# Altium schematic symbol library kmilo17pet-TI_MSP430.SchLib: 1463 symbols (part 15 of 130)
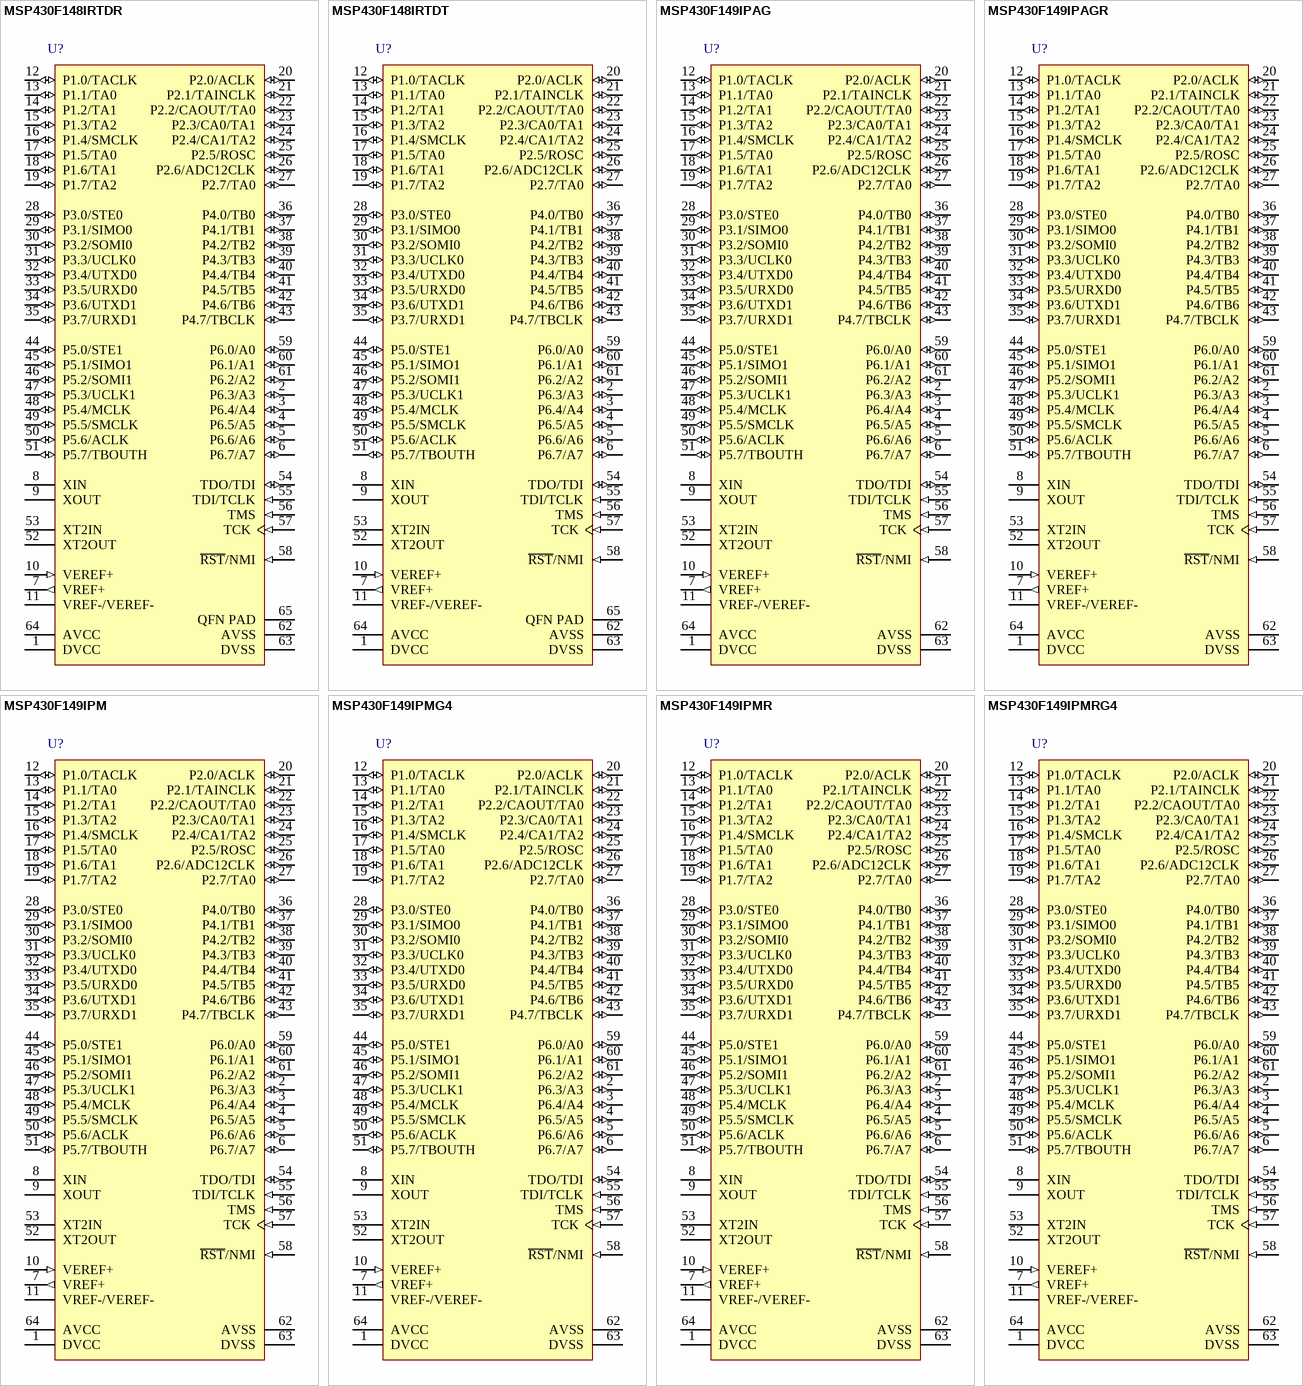
[diagram p244: symbols MSP430F148IRTDR to MSP430F149IPMRG4]

## MSP430F149IPM
designator U?
8 MHz Mixed Signal Microcontroller with 60 KB Flash, 2048 B SRAM and 48 GPIOs, -40 to 85 degC, 64-pin QFP (PM), Green (RoHS & no Sb/Br); Manufacturer: Texas Instruments; PartNumber: MSP430F149IPM; ADC: 12-bit SAR; ADC Channels: 8; Comparators: Yes; Flash(KB): 60; GPIO: 48; Multiplier: 16x16; SRAM(B): 2048; SubFamily: 1 Series; Timers - 16-bit: 2; DatasheetVersion: SLAS272F; PackageVersion: 4040152/C; PackageReference: PM64; PackageDescription: 64-Pin Plastic Quad Flat Pack, Body 10 x 10 mm, Pitch 0.5 mm; Supplier 1: Digi-Key; Supplier Part Number 1: MSP430F149IPAGR-ND; Supplier 2: Newark; Supplier Part Number 2: 65M1693; Supplier 3: Mouser; Supplier Part Number 3: 595-MSP430F149IPAGR; Eco-Plan: Green (RoHS & no Sb/Br); Frequency(MHz): 8; Temp Sensor: Yes; USART: 2; Watchdog: Yes; Mounting Technology: Surface Mount; Code_JEDEC: MS-026; ComponentLink1Description: Manufacturer URL; ComponentLink1URL: http://www.ti.com/; ComponentLink2Description: Datasheet; ComponentLink2URL: http://www.ti.com/general/docs/lit/getliterature.tsp?genericPartNumber=MSP430F149&fileType=pdf; ComponentLink3Description: Package Specification; ComponentLink3URL: http://www.ti.com/lit/ml/mtqf008a/mtqf008a.pdf
footprint TI-PM64_N (QFP, 64-Leads, Body 10x10mm, Pitch 0.5mm, IPC Medium Density)
pins: 1 DVCC (power) "Digital supply voltage, positive terminal. Supplies all digital parts.", 2 P6.3/A3 (io), 3 P6.4/A4 (io), 4 P6.5/A5 (io), 5 P6.6/A6 (io), 6 P6.7/A7 (io), 7 VREF+ (out) "Output of positive terminal of the reference voltage in the ADC", 8 XIN "Input port for crystal oscillator XT1. Standard or watch crystals can be connected.", 9 XOUT "Output terminal of crystal oscillator XT1", 10 VEREF+ (in) "Input for an external reference voltage to the ADC", 11 VREF-/VEREF-, 12 P1.0/TACLK (io), 13 P1.1/TA0 (io), 14 P1.2/TA1 (io), 15 P1.3/TA2 (io), 16 P1.4/SMCLK (io), 17 P1.5/TA0 (io), 18 P1.6/TA1 (io), 19 P1.7/TA2 (io), 20 P2.0/ACLK (io), 21 P2.1/TAINCLK (io), 22 P2.2/CAOUT/TA0 (io), 23 P2.3/CA0/TA1 (io), 24 P2.4/CA1/TA2 (io), 25 P2.5/ROSC (io), 26 P2.6/ADC12CLK (io), 27 P2.7/TA0 (io), 28 P3.0/STE0 (io), 29 P3.1/SIMO0 (io), 30 P3.2/SOMI0 (io), 31 P3.3/UCLK0 (io), 32 P3.4/UTXD0 (io), 33 P3.5/URXD0 (io), 34 P3.6/UTXD1 (io), 35 P3.7/URXD1 (io), 36 P4.0/TB0 (io), 37 P4.1/TB1 (io), 38 P4.2/TB2 (io), 39 P4.3/TB3 (io), 40 P4.4/TB4 (io), 41 P4.5/TB5 (io), 42 P4.6/TB6 (io), 43 P4.7/TBCLK (io), 44 P5.0/STE1 (io), 45 P5.1/SIMO1 (io), 46 P5.2/SOMI1 (io), 47 P5.3/UCLK1 (io), 48 P5.4/MCLK (io), 49 P5.5/SMCLK (io), 50 P5.6/ACLK (io), 51 P5.7/TBOUTH (io), 52 XT2OUT "Output terminal of crystal oscillator XT2", 53 XT2IN "Input port for crystal oscillator XT2. Only standard crystals can be connected.", 54 TDO/TDI (io), 55 TDI/TCLK (in), 56 TMS (in) "Test mode select. TMS is used as an input port for device programming and test.", 57 TCK (in) "Test clock. TCK is the clock input port for device programming test and bootstrap loader start (in Flash devices).", 58 ~{RST}/NMI (in), 59 P6.0/A0 (io), 60 P6.1/A1 (io), 61 P6.2/A2 (io), 62 AVSS (power) "Analog supply voltage, negative terminal. Supplies the analog portion of the analog-to-digital converter.", 63 DVSS (power) "Digital supply voltage, negative terminal. Supplies all digital parts.", 64 AVCC (power) "Analog supply voltage, positive terminal. Supplies the analog portion of the analog-to-digital converter."

## MSP430F149IPMG4
designator U?
8 MHz Mixed Signal Microcontroller with 60 KB Flash, 2048 B SRAM and 48 GPIOs, -40 to 85 degC, 64-pin QFP (PM), Green (RoHS & no Sb/Br); Manufacturer: Texas Instruments; PartNumber: MSP430F149IPMG4; ADC: 12-bit SAR; ADC Channels: 8; Comparators: Yes; Flash(KB): 60; GPIO: 48; Multiplier: 16x16; SRAM(B): 2048; SubFamily: 1 Series; Timers - 16-bit: 2; DatasheetVersion: SLAS272F; PackageVersion: 4040152/C; PackageReference: PM64; PackageDescription: 64-Pin Plastic Quad Flat Pack, Body 10 x 10 mm, Pitch 0.5 mm; Supplier 1: Digi-Key; Supplier Part Number 1: 296-9615-ND; Supplier 2: Farnell; Supplier Part Number 2: 1103048; Supplier 3: Newark; Supplier Part Number 3: 27C4967; Supplier 4: Mouser; Supplier Part Number 4: 595-430F149IPM; Eco-Plan: Green (RoHS & no Sb/Br); Frequency(MHz): 8; Temp Sensor: Yes; USART: 2; Watchdog: Yes; Mounting Technology: Surface Mount; Code_JEDEC: MS-026; ComponentLink1Description: Manufacturer URL; ComponentLink1URL: http://www.ti.com/; ComponentLink2Description: Datasheet; ComponentLink2URL: http://www.ti.com/general/docs/lit/getliterature.tsp?genericPartNumber=MSP430F149&fileType=pdf; ComponentLink3Description: Package Specification; ComponentLink3URL: http://www.ti.com/lit/ml/mtqf008a/mtqf008a.pdf
footprint TI-PM64_N (QFP, 64-Leads, Body 10x10mm, Pitch 0.5mm, IPC Medium Density)
pins: 1 DVCC (power) "Digital supply voltage, positive terminal. Supplies all digital parts.", 2 P6.3/A3 (io), 3 P6.4/A4 (io), 4 P6.5/A5 (io), 5 P6.6/A6 (io), 6 P6.7/A7 (io), 7 VREF+ (out) "Output of positive terminal of the reference voltage in the ADC", 8 XIN "Input port for crystal oscillator XT1. Standard or watch crystals can be connected.", 9 XOUT "Output terminal of crystal oscillator XT1", 10 VEREF+ (in) "Input for an external reference voltage to the ADC", 11 VREF-/VEREF-, 12 P1.0/TACLK (io), 13 P1.1/TA0 (io), 14 P1.2/TA1 (io), 15 P1.3/TA2 (io), 16 P1.4/SMCLK (io), 17 P1.5/TA0 (io), 18 P1.6/TA1 (io), 19 P1.7/TA2 (io), 20 P2.0/ACLK (io), 21 P2.1/TAINCLK (io), 22 P2.2/CAOUT/TA0 (io), 23 P2.3/CA0/TA1 (io), 24 P2.4/CA1/TA2 (io), 25 P2.5/ROSC (io), 26 P2.6/ADC12CLK (io), 27 P2.7/TA0 (io), 28 P3.0/STE0 (io), 29 P3.1/SIMO0 (io), 30 P3.2/SOMI0 (io), 31 P3.3/UCLK0 (io), 32 P3.4/UTXD0 (io), 33 P3.5/URXD0 (io), 34 P3.6/UTXD1 (io), 35 P3.7/URXD1 (io), 36 P4.0/TB0 (io), 37 P4.1/TB1 (io), 38 P4.2/TB2 (io), 39 P4.3/TB3 (io), 40 P4.4/TB4 (io), 41 P4.5/TB5 (io), 42 P4.6/TB6 (io), 43 P4.7/TBCLK (io), 44 P5.0/STE1 (io), 45 P5.1/SIMO1 (io), 46 P5.2/SOMI1 (io), 47 P5.3/UCLK1 (io), 48 P5.4/MCLK (io), 49 P5.5/SMCLK (io), 50 P5.6/ACLK (io), 51 P5.7/TBOUTH (io), 52 XT2OUT "Output terminal of crystal oscillator XT2", 53 XT2IN "Input port for crystal oscillator XT2. Only standard crystals can be connected.", 54 TDO/TDI (io), 55 TDI/TCLK (in), 56 TMS (in) "Test mode select. TMS is used as an input port for device programming and test.", 57 TCK (in) "Test clock. TCK is the clock input port for device programming test and bootstrap loader start (in Flash devices).", 58 ~{RST}/NMI (in), 59 P6.0/A0 (io), 60 P6.1/A1 (io), 61 P6.2/A2 (io), 62 AVSS (power) "Analog supply voltage, negative terminal. Supplies the analog portion of the analog-to-digital converter.", 63 DVSS (power) "Digital supply voltage, negative terminal. Supplies all digital parts.", 64 AVCC (power) "Analog supply voltage, positive terminal. Supplies the analog portion of the analog-to-digital converter."

## MSP430F149IPMR
designator U?
8 MHz Mixed Signal Microcontroller with 60 KB Flash, 2048 B SRAM and 48 GPIOs, -40 to 85 degC, 64-pin QFP (PM), Green (RoHS & no Sb/Br); Manufacturer: Texas Instruments; PartNumber: MSP430F149IPMR; ADC: 12-bit SAR; ADC Channels: 8; Comparators: Yes; Flash(KB): 60; GPIO: 48; Multiplier: 16x16; SRAM(B): 2048; SubFamily: 1 Series; Timers - 16-bit: 2; DatasheetVersion: SLAS272F; PackageVersion: 4040152/C; PackageReference: PM64; PackageDescription: 64-Pin Plastic Quad Flat Pack, Body 10 x 10 mm, Pitch 0.5 mm; Supplier 1: Digi-Key; Supplier Part Number 1: MSP430F149IPMG4-ND; Supplier 2: Newark; Supplier Part Number 2: 04K3544; Supplier 3: Mouser; Supplier Part Number 3: 595-MSP430F149IPMG4; Eco-Plan: Green (RoHS & no Sb/Br); Frequency(MHz): 8; Temp Sensor: Yes; USART: 2; Watchdog: Yes; Mounting Technology: Surface Mount; Code_JEDEC: MS-026; ComponentLink1Description: Manufacturer URL; ComponentLink1URL: http://www.ti.com/; ComponentLink2Description: Datasheet; ComponentLink2URL: http://www.ti.com/general/docs/lit/getliterature.tsp?genericPartNumber=MSP430F149&fileType=pdf; ComponentLink3Description: Package Specification; ComponentLink3URL: http://www.ti.com/lit/ml/mtqf008a/mtqf008a.pdf
footprint TI-PM64_N (QFP, 64-Leads, Body 10x10mm, Pitch 0.5mm, IPC Medium Density)
pins: 1 DVCC (power) "Digital supply voltage, positive terminal. Supplies all digital parts.", 2 P6.3/A3 (io), 3 P6.4/A4 (io), 4 P6.5/A5 (io), 5 P6.6/A6 (io), 6 P6.7/A7 (io), 7 VREF+ (out) "Output of positive terminal of the reference voltage in the ADC", 8 XIN "Input port for crystal oscillator XT1. Standard or watch crystals can be connected.", 9 XOUT "Output terminal of crystal oscillator XT1", 10 VEREF+ (in) "Input for an external reference voltage to the ADC", 11 VREF-/VEREF-, 12 P1.0/TACLK (io), 13 P1.1/TA0 (io), 14 P1.2/TA1 (io), 15 P1.3/TA2 (io), 16 P1.4/SMCLK (io), 17 P1.5/TA0 (io), 18 P1.6/TA1 (io), 19 P1.7/TA2 (io), 20 P2.0/ACLK (io), 21 P2.1/TAINCLK (io), 22 P2.2/CAOUT/TA0 (io), 23 P2.3/CA0/TA1 (io), 24 P2.4/CA1/TA2 (io), 25 P2.5/ROSC (io), 26 P2.6/ADC12CLK (io), 27 P2.7/TA0 (io), 28 P3.0/STE0 (io), 29 P3.1/SIMO0 (io), 30 P3.2/SOMI0 (io), 31 P3.3/UCLK0 (io), 32 P3.4/UTXD0 (io), 33 P3.5/URXD0 (io), 34 P3.6/UTXD1 (io), 35 P3.7/URXD1 (io), 36 P4.0/TB0 (io), 37 P4.1/TB1 (io), 38 P4.2/TB2 (io), 39 P4.3/TB3 (io), 40 P4.4/TB4 (io), 41 P4.5/TB5 (io), 42 P4.6/TB6 (io), 43 P4.7/TBCLK (io), 44 P5.0/STE1 (io), 45 P5.1/SIMO1 (io), 46 P5.2/SOMI1 (io), 47 P5.3/UCLK1 (io), 48 P5.4/MCLK (io), 49 P5.5/SMCLK (io), 50 P5.6/ACLK (io), 51 P5.7/TBOUTH (io), 52 XT2OUT "Output terminal of crystal oscillator XT2", 53 XT2IN "Input port for crystal oscillator XT2. Only standard crystals can be connected.", 54 TDO/TDI (io), 55 TDI/TCLK (in), 56 TMS (in) "Test mode select. TMS is used as an input port for device programming and test.", 57 TCK (in) "Test clock. TCK is the clock input port for device programming test and bootstrap loader start (in Flash devices).", 58 ~{RST}/NMI (in), 59 P6.0/A0 (io), 60 P6.1/A1 (io), 61 P6.2/A2 (io), 62 AVSS (power) "Analog supply voltage, negative terminal. Supplies the analog portion of the analog-to-digital converter.", 63 DVSS (power) "Digital supply voltage, negative terminal. Supplies all digital parts.", 64 AVCC (power) "Analog supply voltage, positive terminal. Supplies the analog portion of the analog-to-digital converter."

## MSP430F149IPMRG4
designator U?
8 MHz Mixed Signal Microcontroller with 60 KB Flash, 2048 B SRAM and 48 GPIOs, -40 to 85 degC, 64-pin QFP (PM), Green (RoHS & no Sb/Br); Manufacturer: Texas Instruments; PartNumber: MSP430F149IPMRG4; ADC: 12-bit SAR; ADC Channels: 8; Comparators: Yes; Flash(KB): 60; GPIO: 48; Multiplier: 16x16; SRAM(B): 2048; SubFamily: 1 Series; Timers - 16-bit: 2; DatasheetVersion: SLAS272F; PackageVersion: 4040152/C; PackageReference: PM64; PackageDescription: 64-Pin Plastic Quad Flat Pack, Body 10 x 10 mm, Pitch 0.5 mm; Supplier 1: Digi-Key; Supplier Part Number 1: 296-26186-2-ND; Supplier 2: Digi-Key; Supplier Part Number 2: 296-26186-1-ND; Supplier 3: Digi-Key; Supplier Part Number 3: 296-26186-6-ND; Supplier 4: Newark; Supplier Part Number 4: 75C4042; Supplier 5: Mouser; Supplier Part Number 5: 595-430F149IPMR; Eco-Plan: Green (RoHS & no Sb/Br); Frequency(MHz): 8; Temp Sensor: Yes; USART: 2; Watchdog: Yes; Mounting Technology: Surface Mount; Code_JEDEC: MS-026; ComponentLink1Description: Manufacturer URL; ComponentLink1URL: http://www.ti.com/; ComponentLink2Description: Datasheet; ComponentLink2URL: http://www.ti.com/general/docs/lit/getliterature.tsp?genericPartNumber=MSP430F149&fileType=pdf; ComponentLink3Description: Package Specification; ComponentLink3URL: http://www.ti.com/lit/ml/mtqf008a/mtqf008a.pdf
footprint TI-PM64_N (QFP, 64-Leads, Body 10x10mm, Pitch 0.5mm, IPC Medium Density)
pins: 1 DVCC (power) "Digital supply voltage, positive terminal. Supplies all digital parts.", 2 P6.3/A3 (io), 3 P6.4/A4 (io), 4 P6.5/A5 (io), 5 P6.6/A6 (io), 6 P6.7/A7 (io), 7 VREF+ (out) "Output of positive terminal of the reference voltage in the ADC", 8 XIN "Input port for crystal oscillator XT1. Standard or watch crystals can be connected.", 9 XOUT "Output terminal of crystal oscillator XT1", 10 VEREF+ (in) "Input for an external reference voltage to the ADC", 11 VREF-/VEREF-, 12 P1.0/TACLK (io), 13 P1.1/TA0 (io), 14 P1.2/TA1 (io), 15 P1.3/TA2 (io), 16 P1.4/SMCLK (io), 17 P1.5/TA0 (io), 18 P1.6/TA1 (io), 19 P1.7/TA2 (io), 20 P2.0/ACLK (io), 21 P2.1/TAINCLK (io), 22 P2.2/CAOUT/TA0 (io), 23 P2.3/CA0/TA1 (io), 24 P2.4/CA1/TA2 (io), 25 P2.5/ROSC (io), 26 P2.6/ADC12CLK (io), 27 P2.7/TA0 (io), 28 P3.0/STE0 (io), 29 P3.1/SIMO0 (io), 30 P3.2/SOMI0 (io), 31 P3.3/UCLK0 (io), 32 P3.4/UTXD0 (io), 33 P3.5/URXD0 (io), 34 P3.6/UTXD1 (io), 35 P3.7/URXD1 (io), 36 P4.0/TB0 (io), 37 P4.1/TB1 (io), 38 P4.2/TB2 (io), 39 P4.3/TB3 (io), 40 P4.4/TB4 (io), 41 P4.5/TB5 (io), 42 P4.6/TB6 (io), 43 P4.7/TBCLK (io), 44 P5.0/STE1 (io), 45 P5.1/SIMO1 (io), 46 P5.2/SOMI1 (io), 47 P5.3/UCLK1 (io), 48 P5.4/MCLK (io), 49 P5.5/SMCLK (io), 50 P5.6/ACLK (io), 51 P5.7/TBOUTH (io), 52 XT2OUT "Output terminal of crystal oscillator XT2", 53 XT2IN "Input port for crystal oscillator XT2. Only standard crystals can be connected.", 54 TDO/TDI (io), 55 TDI/TCLK (in), 56 TMS (in) "Test mode select. TMS is used as an input port for device programming and test.", 57 TCK (in) "Test clock. TCK is the clock input port for device programming test and bootstrap loader start (in Flash devices).", 58 ~{RST}/NMI (in), 59 P6.0/A0 (io), 60 P6.1/A1 (io), 61 P6.2/A2 (io), 62 AVSS (power) "Analog supply voltage, negative terminal. Supplies the analog portion of the analog-to-digital converter.", 63 DVSS (power) "Digital supply voltage, negative terminal. Supplies all digital parts.", 64 AVCC (power) "Analog supply voltage, positive terminal. Supplies the analog portion of the analog-to-digital converter."

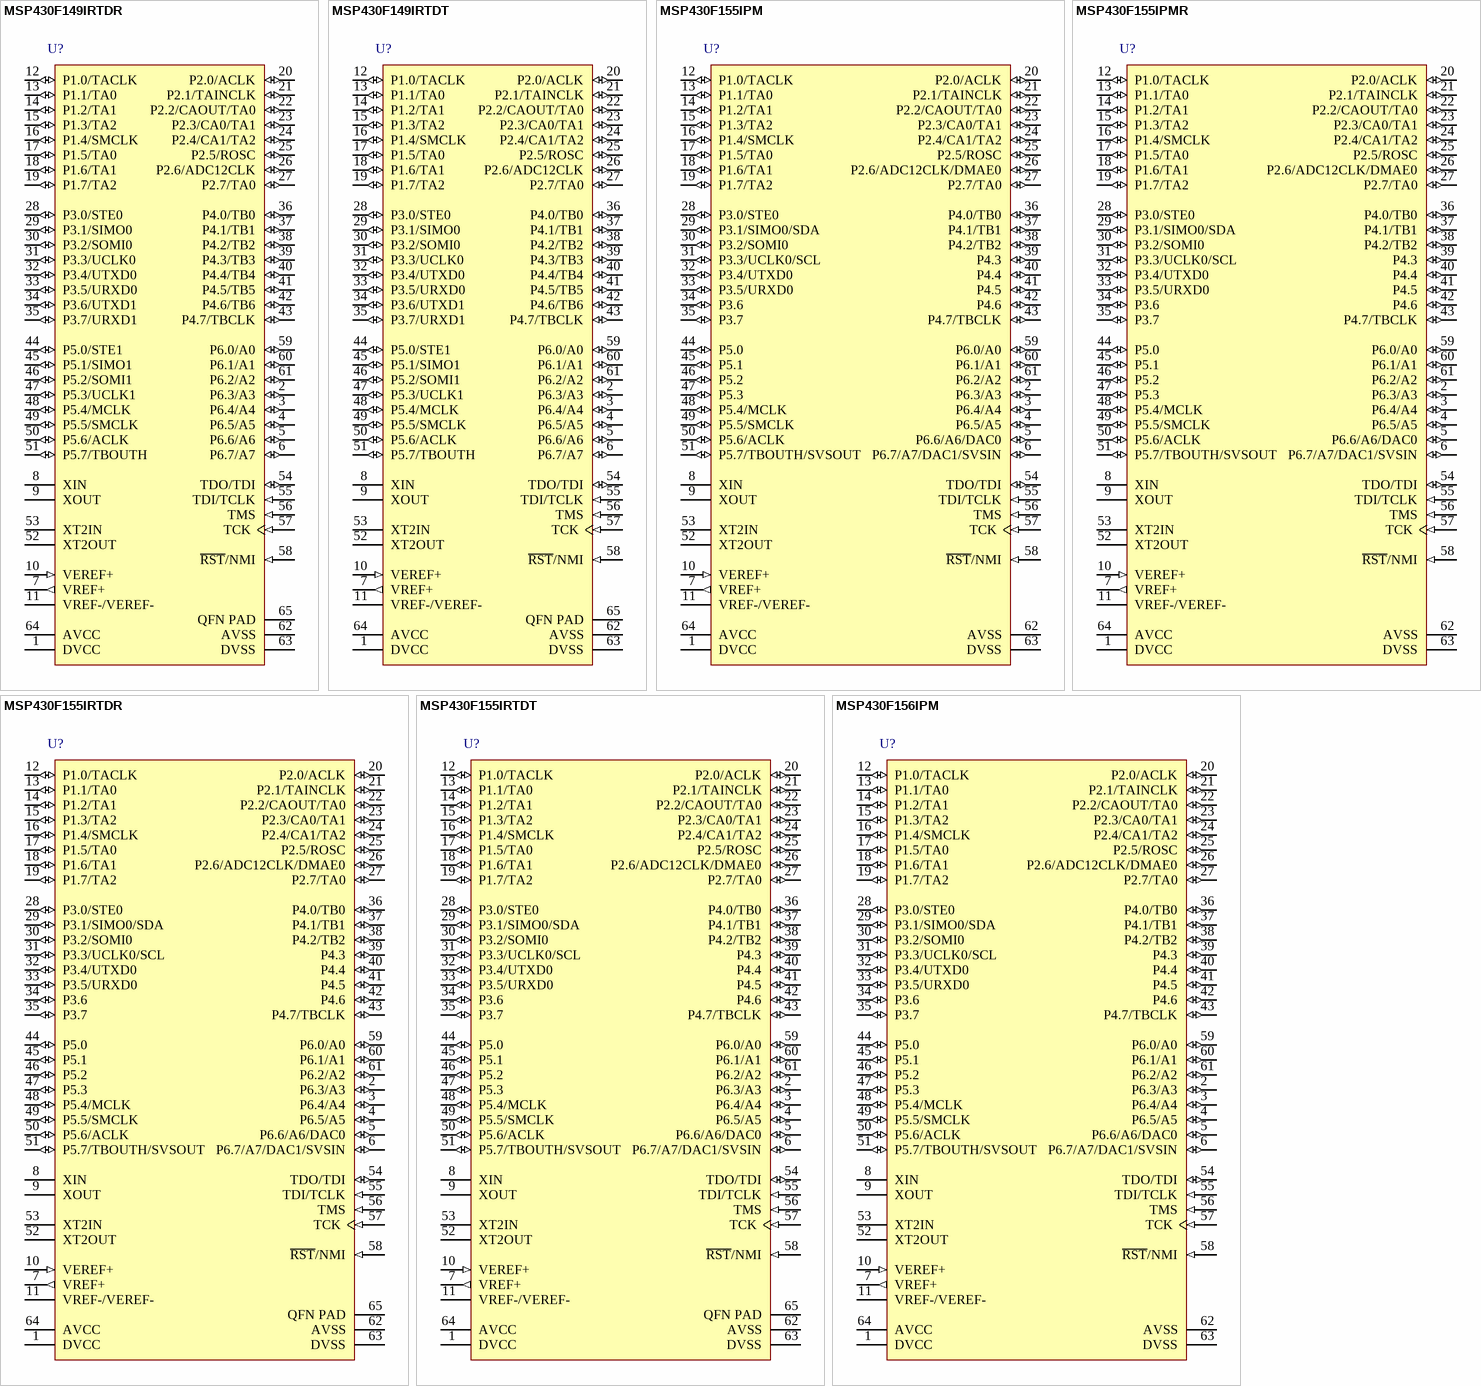
[diagram p24: symbols MSP430F149IRTDR to MSP430F156IPM]

## MSP430F149IRTDR
designator U?
8 MHz Mixed Signal Microcontroller with 60 KB Flash, 2048 B SRAM and 48 GPIOs, -40 to 85 degC, 64-pin QFN (RDT), Green (RoHS & no Sb/Br); Manufacturer: Texas Instruments; PartNumber: MSP430F149IRTDR; ADC: 12-bit SAR; ADC Channels: 8; Comparators: Yes; Flash(KB): 60; GPIO: 48; Multiplier: 16x16; SRAM(B): 2048; SubFamily: 1 Series; Timers - 16-bit: 2; DatasheetVersion: SLAS272F; PackageReference: RTD64; PackageDescription: 64-Pin Plastic Flat Pack, Body 9 x 9 mm, Pitch 0.5 mm; Supplier 1: Digi-Key; Supplier Part Number 1: MSP430F149IPMRG4-ND; Supplier 2: Newark; Supplier Part Number 2: 04K3545; Supplier 3: Mouser; Supplier Part Number 3: 595-MSP430F149IPMRG4; Eco-Plan: Green (RoHS & no Sb/Br); Frequency(MHz): 8; Temp Sensor: Yes; USART: 2; Watchdog: Yes; Mounting Technology: Surface Mount; ComponentLink1Description: Manufacturer URL; ComponentLink1URL: http://www.ti.com/; ComponentLink2Description: Datasheet; ComponentLink2URL: http://www.ti.com/general/docs/lit/getliterature.tsp?genericPartNumber=MSP430F149&fileType=pdf; ComponentLink3Description: Package Specification; ComponentLink3URL: http://www.ti.com/lit/ds/symlink/msp430f1471.pdf
footprint TI-RTD64-4700X4700TP_N (QFN, 64-Leads, Body 9x9mm, Pitch 0.5mm, Thermal Pad 4.7x4.7mm, IPC Medium Density)
pins: 1 DVCC (power) "Digital supply voltage, positive terminal. Supplies all digital parts.", 2 P6.3/A3 (io), 3 P6.4/A4 (io), 4 P6.5/A5 (io), 5 P6.6/A6 (io), 6 P6.7/A7 (io), 7 VREF+ (out) "Output of positive terminal of the reference voltage in the ADC", 8 XIN "Input port for crystal oscillator XT1. Standard or watch crystals can be connected.", 9 XOUT "Output terminal of crystal oscillator XT1", 10 VEREF+ (in) "Input for an external reference voltage to the ADC", 11 VREF-/VEREF-, 12 P1.0/TACLK (io), 13 P1.1/TA0 (io), 14 P1.2/TA1 (io), 15 P1.3/TA2 (io), 16 P1.4/SMCLK (io), 17 P1.5/TA0 (io), 18 P1.6/TA1 (io), 19 P1.7/TA2 (io), 20 P2.0/ACLK (io), 21 P2.1/TAINCLK (io), 22 P2.2/CAOUT/TA0 (io), 23 P2.3/CA0/TA1 (io), 24 P2.4/CA1/TA2 (io), 25 P2.5/ROSC (io), 26 P2.6/ADC12CLK (io), 27 P2.7/TA0 (io), 28 P3.0/STE0 (io), 29 P3.1/SIMO0 (io), 30 P3.2/SOMI0 (io), 31 P3.3/UCLK0 (io), 32 P3.4/UTXD0 (io), 33 P3.5/URXD0 (io), 34 P3.6/UTXD1 (io), 35 P3.7/URXD1 (io), 36 P4.0/TB0 (io), 37 P4.1/TB1 (io), 38 P4.2/TB2 (io), 39 P4.3/TB3 (io), 40 P4.4/TB4 (io), 41 P4.5/TB5 (io), 42 P4.6/TB6 (io), 43 P4.7/TBCLK (io), 44 P5.0/STE1 (io), 45 P5.1/SIMO1 (io), 46 P5.2/SOMI1 (io), 47 P5.3/UCLK1 (io), 48 P5.4/MCLK (io), 49 P5.5/SMCLK (io), 50 P5.6/ACLK (io), 51 P5.7/TBOUTH (io), 52 XT2OUT "Output terminal of crystal oscillator XT2", 53 XT2IN "Input port for crystal oscillator XT2. Only standard crystals can be connected.", 54 TDO/TDI (io), 55 TDI/TCLK (in), 56 TMS (in) "Test mode select. TMS is used as an input port for device programming and test.", 57 TCK (in) "Test clock. TCK is the clock input port for device programming test and bootstrap loader start (in Flash devices).", 58 ~{RST}/NMI (in), 59 P6.0/A0 (io), 60 P6.1/A1 (io), 61 P6.2/A2 (io), 62 AVSS (power) "Analog supply voltage, negative terminal. Supplies the analog portion of the analog-to-digital converter.", 63 DVSS (power) "Digital supply voltage, negative terminal. Supplies all digital parts.", 64 AVCC (power) "Analog supply voltage, positive terminal. Supplies the analog portion of the analog-to-digital converter.", 65 QFN PAD (power) "QFN package pad connection to DVSS recommended."

## MSP430F149IRTDT
designator U?
8 MHz Mixed Signal Microcontroller with 60 KB Flash, 2048 B SRAM and 48 GPIOs, -40 to 85 degC, 64-pin QFN (RDT), Green (RoHS & no Sb/Br); Manufacturer: Texas Instruments; PartNumber: MSP430F149IRTDT; ADC: 12-bit SAR; ADC Channels: 8; Comparators: Yes; Flash(KB): 60; GPIO: 48; Multiplier: 16x16; SRAM(B): 2048; SubFamily: 1 Series; Timers - 16-bit: 2; DatasheetVersion: SLAS272F; PackageReference: RTD64; PackageDescription: 64-Pin Plastic Flat Pack, Body 9 x 9 mm, Pitch 0.5 mm; Supplier 1: Digi-Key; Supplier Part Number 1: MSP430F149IRTDR-ND; Supplier 2: Farnell; Supplier Part Number 2: 1903426; Supplier 3: Newark; Supplier Part Number 3: 21J8839; Supplier 4: Mouser; Supplier Part Number 4: 595-MSP430F149IRTDR; Eco-Plan: Green (RoHS & no Sb/Br); Frequency(MHz): 8; Temp Sensor: Yes; USART: 2; Watchdog: Yes; Mounting Technology: Surface Mount; ComponentLink1Description: Manufacturer URL; ComponentLink1URL: http://www.ti.com/; ComponentLink2Description: Datasheet; ComponentLink2URL: http://www.ti.com/general/docs/lit/getliterature.tsp?genericPartNumber=MSP430F149&fileType=pdf; ComponentLink3Description: Package Specification; ComponentLink3URL: http://www.ti.com/lit/ds/symlink/msp430f1471.pdf
footprint TI-RTD64-4700X4700TP_N (QFN, 64-Leads, Body 9x9mm, Pitch 0.5mm, Thermal Pad 4.7x4.7mm, IPC Medium Density)
pins: 1 DVCC (power) "Digital supply voltage, positive terminal. Supplies all digital parts.", 2 P6.3/A3 (io), 3 P6.4/A4 (io), 4 P6.5/A5 (io), 5 P6.6/A6 (io), 6 P6.7/A7 (io), 7 VREF+ (out) "Output of positive terminal of the reference voltage in the ADC", 8 XIN "Input port for crystal oscillator XT1. Standard or watch crystals can be connected.", 9 XOUT "Output terminal of crystal oscillator XT1", 10 VEREF+ (in) "Input for an external reference voltage to the ADC", 11 VREF-/VEREF-, 12 P1.0/TACLK (io), 13 P1.1/TA0 (io), 14 P1.2/TA1 (io), 15 P1.3/TA2 (io), 16 P1.4/SMCLK (io), 17 P1.5/TA0 (io), 18 P1.6/TA1 (io), 19 P1.7/TA2 (io), 20 P2.0/ACLK (io), 21 P2.1/TAINCLK (io), 22 P2.2/CAOUT/TA0 (io), 23 P2.3/CA0/TA1 (io), 24 P2.4/CA1/TA2 (io), 25 P2.5/ROSC (io), 26 P2.6/ADC12CLK (io), 27 P2.7/TA0 (io), 28 P3.0/STE0 (io), 29 P3.1/SIMO0 (io), 30 P3.2/SOMI0 (io), 31 P3.3/UCLK0 (io), 32 P3.4/UTXD0 (io), 33 P3.5/URXD0 (io), 34 P3.6/UTXD1 (io), 35 P3.7/URXD1 (io), 36 P4.0/TB0 (io), 37 P4.1/TB1 (io), 38 P4.2/TB2 (io), 39 P4.3/TB3 (io), 40 P4.4/TB4 (io), 41 P4.5/TB5 (io), 42 P4.6/TB6 (io), 43 P4.7/TBCLK (io), 44 P5.0/STE1 (io), 45 P5.1/SIMO1 (io), 46 P5.2/SOMI1 (io), 47 P5.3/UCLK1 (io), 48 P5.4/MCLK (io), 49 P5.5/SMCLK (io), 50 P5.6/ACLK (io), 51 P5.7/TBOUTH (io), 52 XT2OUT "Output terminal of crystal oscillator XT2", 53 XT2IN "Input port for crystal oscillator XT2. Only standard crystals can be connected.", 54 TDO/TDI (io), 55 TDI/TCLK (in), 56 TMS (in) "Test mode select. TMS is used as an input port for device programming and test.", 57 TCK (in) "Test clock. TCK is the clock input port for device programming test and bootstrap loader start (in Flash devices).", 58 ~{RST}/NMI (in), 59 P6.0/A0 (io), 60 P6.1/A1 (io), 61 P6.2/A2 (io), 62 AVSS (power) "Analog supply voltage, negative terminal. Supplies the analog portion of the analog-to-digital converter.", 63 DVSS (power) "Digital supply voltage, negative terminal. Supplies all digital parts.", 64 AVCC (power) "Analog supply voltage, positive terminal. Supplies the analog portion of the analog-to-digital converter.", 65 QFN PAD (power) "QFN package pad connection to DVSS recommended."

## MSP430F155IPM
designator U?
8 MHz Mixed Signal Microcontroller with 16 KB Flash, 512 B SRAM and 48 GPIOs, -40 to 85 degC, 64-pin LQFP (PM), Green (RoHS & no Sb/Br); Manufacturer: Texas Instruments; PartNumber: MSP430F155IPM; ADC: 12-bit SAR; ADC Channels: 8; Brown Out Reset: Yes; DAC: 1; Flash(KB): 16; GPIO: 48; SRAM(B): 512; SubFamily: 1 Series; Timers - 16-bit: 2; USART: 1 with I, 2C; DatasheetVersion: SLAS368G; PackageVersion: 4040152/C; PackageReference: PM64; PackageDescription: 64-Pin Plastic Quad Flat Pack, Body 10 x 10 mm, Pitch 0.5 mm; Supplier 1: Digi-Key; Supplier Part Number 1: 296-17556-2-ND; Supplier 2: Digi-Key; Supplier Part Number 2: 296-17556-1-ND; Supplier 3: Digi-Key; Supplier Part Number 3: 296-17556-6-ND; Supplier 4: Farnell; Supplier Part Number 4: 1753239; Supplier 5: Newark; Supplier Part Number 5: 93R5505; Supplier 6: Newark; Supplier Part Number 6: 21J8840; Supplier 7: Mouser; Supplier Part Number 7: 595-MSP430F149IRTDT; Comparators: Yes; Eco-Plan: Green (RoHS & no Sb/Br); Frequency(MHz): 8; SVS: Yes; Temp Sensor: Yes; Watchdog: Yes; Mounting Technology: Surface Mount; Code_JEDEC: MS-026; ComponentLink1Description: Manufacturer URL; ComponentLink1URL: http://www.ti.com/; ComponentLink2Description: Datasheet; ComponentLink2URL: http://www.ti.com/general/docs/lit/getliterature.tsp?genericPartNumber=MSP430F155&fileType=pdf; ComponentLink3Description: Package Specification; ComponentLink3URL: http://www.ti.com/lit/ml/mtqf008a/mtqf008a.pdf
footprint TI-PM64_N (QFP, 64-Leads, Body 10x10mm, Pitch 0.5mm, IPC Medium Density)
pins: 1 DVCC (power) "Digital supply voltage, positive terminal. Supplies all digital parts.", 2 P6.3/A3 (io), 3 P6.4/A4 (io), 4 P6.5/A5 (io), 5 P6.6/A6/DAC0 (io), 6 P6.7/A7/DAC1/SVSIN (io), 7 VREF+ (out) "Output of positive terminal of the reference voltage in the ADC12", 8 XIN "Input port for crystal oscillator XT1. Standard or watch crystals can be connected.", 9 XOUT "Output terminal of crystal oscillator XT1", 10 VEREF+ (in) "Input for an external reference voltage to the ADC", 11 VREF-/VEREF-, 12 P1.0/TACLK (io), 13 P1.1/TA0 (io), 14 P1.2/TA1 (io), 15 P1.3/TA2 (io), 16 P1.4/SMCLK (io), 17 P1.5/TA0 (io), 18 P1.6/TA1 (io), 19 P1.7/TA2 (io), 20 P2.0/ACLK (io), 21 P2.1/TAINCLK (io), 22 P2.2/CAOUT/TA0 (io), 23 P2.3/CA0/TA1 (io), 24 P2.4/CA1/TA2 (io), 25 P2.5/ROSC (io), 26 P2.6/ADC12CLK/DMAE0 (io), 27 P2.7/TA0 (io), 28 P3.0/STE0 (io), 29 P3.1/SIMO0/SDA (io), 30 P3.2/SOMI0 (io), 31 P3.3/UCLK0/SCL (io), 32 P3.4/UTXD0 (io), 33 P3.5/URXD0 (io), 34 P3.6 (io) "General-purpose digital I/O pin", 35 P3.7 (io) "General-purpose digital I/O pin", 36 P4.0/TB0 (io), 37 P4.1/TB1 (io), 38 P4.2/TB2 (io), 39 P4.3 (io) "General-purpose digital I/O pin", 40 P4.4 (io) "General-purpose digital I/O pin", 41 P4.5 (io) "General-purpose digital I/O pin", 42 P4.6 (io) "General-purpose digital I/O pin", 43 P4.7/TBCLK (io), 44 P5.0 (io) "General-purpose digital I/O pin", 45 P5.1 (io) "General-purpose digital I/O pin", 46 P5.2 (io) "General-purpose digital I/O pin", 47 P5.3 (io) "General-purpose digital I/O pin", 48 P5.4/MCLK (io), 49 P5.5/SMCLK (io), 50 P5.6/ACLK (io), 51 P5.7/TBOUTH/SVSOUT (io), 52 XT2OUT "Output terminal of crystal oscillator XT2", 53 XT2IN "Input port for crystal oscillator XT2. Only standard crystals can be connected.", 54 TDO/TDI (io), 55 TDI/TCLK (in), 56 TMS (in) "Test mode select. TMS is used as an input port for device programming and test.", 57 TCK (in) "Test clock. TCK is the clock input port for device programming test and bootstrap loader start", 58 ~{RST}/NMI (in), 59 P6.0/A0 (io), 60 P6.1/A1 (io), 61 P6.2/A2 (io), 62 AVSS (power) "Analog supply voltage, negative terminal. Supplies only the analog portion of ADC12 and DAC12.", 63 DVSS (power) "Digital supply voltage, negative terminal. Supplies all digital parts.", 64 AVCC (power) "Analog supply voltage, positive terminal. Supplies only the analog portion of ADC12 and DAC12"

## MSP430F155IPMR
designator U?
8 MHz Mixed Signal Microcontroller with 16 KB Flash, 512 B SRAM and 48 GPIOs, -40 to 85 degC, 64-pin LQFP (PM), Green (RoHS & no Sb/Br); Manufacturer: Texas Instruments; PartNumber: MSP430F155IPMR; ADC: 12-bit SAR; ADC Channels: 8; Brown Out Reset: Yes; DAC: 1; Flash(KB): 16; GPIO: 48; SRAM(B): 512; SubFamily: 1 Series; Timers - 16-bit: 2; USART: 1 with I, 2C; DatasheetVersion: SLAS368G; PackageVersion: 4040152/C; PackageReference: PM64; PackageDescription: 64-Pin Plastic Quad Flat Pack, Body 10 x 10 mm, Pitch 0.5 mm; Supplier 1: Digi-Key; Supplier Part Number 1: 296-16837-ND; Supplier 2: Farnell; Supplier Part Number 2: 1471270; Supplier 3: Newark; Supplier Part Number 3: 01J0580; Supplier 4: Mouser; Supplier Part Number 4: 595-430F155IPM; Comparators: Yes; Eco-Plan: Green (RoHS & no Sb/Br); Frequency(MHz): 8; SVS: Yes; Temp Sensor: Yes; Watchdog: Yes; Mounting Technology: Surface Mount; Code_JEDEC: MS-026; ComponentLink1Description: Manufacturer URL; ComponentLink1URL: http://www.ti.com/; ComponentLink2Description: Datasheet; ComponentLink2URL: http://www.ti.com/general/docs/lit/getliterature.tsp?genericPartNumber=MSP430F155&fileType=pdf; ComponentLink3Description: Package Specification; ComponentLink3URL: http://www.ti.com/lit/ml/mtqf008a/mtqf008a.pdf
footprint TI-PM64_N (QFP, 64-Leads, Body 10x10mm, Pitch 0.5mm, IPC Medium Density)
pins: 1 DVCC (power) "Digital supply voltage, positive terminal. Supplies all digital parts.", 2 P6.3/A3 (io), 3 P6.4/A4 (io), 4 P6.5/A5 (io), 5 P6.6/A6/DAC0 (io), 6 P6.7/A7/DAC1/SVSIN (io), 7 VREF+ (out) "Output of positive terminal of the reference voltage in the ADC12", 8 XIN "Input port for crystal oscillator XT1. Standard or watch crystals can be connected.", 9 XOUT "Output terminal of crystal oscillator XT1", 10 VEREF+ (in) "Input for an external reference voltage to the ADC", 11 VREF-/VEREF-, 12 P1.0/TACLK (io), 13 P1.1/TA0 (io), 14 P1.2/TA1 (io), 15 P1.3/TA2 (io), 16 P1.4/SMCLK (io), 17 P1.5/TA0 (io), 18 P1.6/TA1 (io), 19 P1.7/TA2 (io), 20 P2.0/ACLK (io), 21 P2.1/TAINCLK (io), 22 P2.2/CAOUT/TA0 (io), 23 P2.3/CA0/TA1 (io), 24 P2.4/CA1/TA2 (io), 25 P2.5/ROSC (io), 26 P2.6/ADC12CLK/DMAE0 (io), 27 P2.7/TA0 (io), 28 P3.0/STE0 (io), 29 P3.1/SIMO0/SDA (io), 30 P3.2/SOMI0 (io), 31 P3.3/UCLK0/SCL (io), 32 P3.4/UTXD0 (io), 33 P3.5/URXD0 (io), 34 P3.6 (io) "General-purpose digital I/O pin", 35 P3.7 (io) "General-purpose digital I/O pin", 36 P4.0/TB0 (io), 37 P4.1/TB1 (io), 38 P4.2/TB2 (io), 39 P4.3 (io) "General-purpose digital I/O pin", 40 P4.4 (io) "General-purpose digital I/O pin", 41 P4.5 (io) "General-purpose digital I/O pin", 42 P4.6 (io) "General-purpose digital I/O pin", 43 P4.7/TBCLK (io), 44 P5.0 (io) "General-purpose digital I/O pin", 45 P5.1 (io) "General-purpose digital I/O pin", 46 P5.2 (io) "General-purpose digital I/O pin", 47 P5.3 (io) "General-purpose digital I/O pin", 48 P5.4/MCLK (io), 49 P5.5/SMCLK (io), 50 P5.6/ACLK (io), 51 P5.7/TBOUTH/SVSOUT (io), 52 XT2OUT "Output terminal of crystal oscillator XT2", 53 XT2IN "Input port for crystal oscillator XT2. Only standard crystals can be connected.", 54 TDO/TDI (io), 55 TDI/TCLK (in), 56 TMS (in) "Test mode select. TMS is used as an input port for device programming and test.", 57 TCK (in) "Test clock. TCK is the clock input port for device programming test and bootstrap loader start", 58 ~{RST}/NMI (in), 59 P6.0/A0 (io), 60 P6.1/A1 (io), 61 P6.2/A2 (io), 62 AVSS (power) "Analog supply voltage, negative terminal. Supplies only the analog portion of ADC12 and DAC12.", 63 DVSS (power) "Digital supply voltage, negative terminal. Supplies all digital parts.", 64 AVCC (power) "Analog supply voltage, positive terminal. Supplies only the analog portion of ADC12 and DAC12"

## MSP430F155IRTDR
designator U?
8 MHz Mixed Signal Microcontroller with 16 KB Flash, 512 B SRAM and 48 GPIOs, -40 to 85 degC, 64-pin QFN (RTD), Green (RoHS & no Sb/Br); Manufacturer: Texas Instruments; PartNumber: MSP430F155IRTDR; ADC: 12-bit SAR; ADC Channels: 8; Brown Out Reset: Yes; DAC: 1; Flash(KB): 16; GPIO: 48; SRAM(B): 512; SubFamily: 1 Series; Timers - 16-bit: 2; USART: 1 with I, 2C; DatasheetVersion: SLAS368G; PackageReference: RTD64; PackageDescription: 64-Pin Plastic Flat Pack, Body 9 x 9 mm, Pitch 0.5 mm; Supplier 1: Digi-Key; Supplier Part Number 1: 296-26187-2-ND; Supplier 2: Digi-Key; Supplier Part Number 2: 296-26187-1-ND; Supplier 3: Digi-Key; Supplier Part Number 3: 296-26187-6-ND; Supplier 4: Farnell; Supplier Part Number 4: 1848731; Supplier 5: Newark; Supplier Part Number 5: 82R7741; Supplier 6: Newark; Supplier Part Number 6: 01J0581; Supplier 7: Mouser; Supplier Part Number 7: 595-430F155IPMR; Comparators: Yes; Eco-Plan: Green (RoHS & no Sb/Br); Frequency(MHz): 8; SVS: Yes; Temp Sensor: Yes; Watchdog: Yes; Mounting Technology: Surface Mount; ComponentLink1Description: Manufacturer URL; ComponentLink1URL: http://www.ti.com/; ComponentLink2Description: Datasheet; ComponentLink2URL: http://www.ti.com/general/docs/lit/getliterature.tsp?genericPartNumber=MSP430F155&fileType=pdf; ComponentLink3Description: Package Specification; ComponentLink3URL: http://www.ti.com/lit/ds/symlink/msp430f1471.pdf
footprint TI-RTD64-4700X4700TP_N (QFN, 64-Leads, Body 9x9mm, Pitch 0.5mm, Thermal Pad 4.7x4.7mm, IPC Medium Density)
pins: 1 DVCC (power) "Digital supply voltage, positive terminal. Supplies all digital parts", 2 P6.3/A3 (io), 3 P6.4/A4 (io), 4 P6.5/A5 (io), 5 P6.6/A6/DAC0 (io), 6 P6.7/A7/DAC1/SVSIN (io), 7 VREF+ (out) "Output of positive terminal of the reference voltage in the ADC12", 8 XIN "Input port for crystal oscillator XT1. Standard or watch crystals can be connected.", 9 XOUT "Output terminal of crystal oscillator XT1", 10 VEREF+ (in) "Input for an external reference voltage", 11 VREF-/VEREF-, 12 P1.0/TACLK (io), 13 P1.1/TA0 (io), 14 P1.2/TA1 (io), 15 P1.3/TA2 (io), 16 P1.4/SMCLK (io), 17 P1.5/TA0 (io), 18 P1.6/TA1 (io), 19 P1.7/TA2 (io), 20 P2.0/ACLK (io), 21 P2.1/TAINCLK (io), 22 P2.2/CAOUT/TA0 (io), 23 P2.3/CA0/TA1 (io), 24 P2.4/CA1/TA2 (io), 25 P2.5/ROSC (io), 26 P2.6/ADC12CLK/DMAE0 (io), 27 P2.7/TA0 (io), 28 P3.0/STE0 (io), 29 P3.1/SIMO0/SDA (io), 30 P3.2/SOMI0 (io), 31 P3.3/UCLK0/SCL (io), 32 P3.4/UTXD0 (io), 33 P3.5/URXD0 (io), 34 P3.6 (io) "General-purpose digital I/O pin", 35 P3.7 (io) "General-purpose digital I/O pin", 36 P4.0/TB0 (io), 37 P4.1/TB1 (io), 38 P4.2/TB2 (io), 39 P4.3 (io) "General-purpose digital I/O pin", 40 P4.4 (io) "General-purpose digital I/O pin", 41 P4.5 (io) "General-purpose digital I/O pin", 42 P4.6 (io) "General-purpose digital I/O pin", 43 P4.7/TBCLK (io), 44 P5.0 (io) "General-purpose digital I/O pin", 45 P5.1 (io) "General-purpose digital I/O pin", 46 P5.2 (io) "General-purpose digital I/O pin", 47 P5.3 (io) "General-purpose digital I/O pin", 48 P5.4/MCLK (io), 49 P5.5/SMCLK (io), 50 P5.6/ACLK (io), 51 P5.7/TBOUTH/SVSOUT (io), 52 XT2OUT "Output terminal of crystal oscillator XT2", 53 XT2IN "Input port for crystal oscillator XT2. Only standard crystals can be connected.", 54 TDO/TDI (io), 55 TDI/TCLK (in), 56 TMS (in) "Test mode select. TMS is used as an input port for device programming and test", 57 TCK (in) "Test clock. TCK is the clock input port for device programming test and bootstrap loader start", 58 ~{RST}/NMI (in), 59 P6.0/A0 (io), 60 P6.1/A1 (io), 61 P6.2/A2 (io), 62 AVSS (power) "Analog supply voltage, negative terminal. Supplies only the analog portion of ADC12 and DAC12.", 63 DVSS (power) "Digital supply voltage, negative terminal. Supplies all digital parts.", 64 AVCC (power) "Analog supply voltage, positive terminal. Supplies only the analog portion of ADC12 and DAC12.", 65 QFN PAD (power) "QFN package pad connection to DVSS recommended (RTD package only)"

## MSP430F155IRTDT
designator U?
8 MHz Mixed Signal Microcontroller with 16 KB Flash, 512 B SRAM and 48 GPIOs, -40 to 85 degC, 64-pin QFN (RTD), Green (RoHS & no Sb/Br); Manufacturer: Texas Instruments; PartNumber: MSP430F155IRTDT; ADC: 12-bit SAR; ADC Channels: 8; Brown Out Reset: Yes; DAC: 1; Flash(KB): 16; GPIO: 48; SRAM(B): 512; SubFamily: 1 Series; Timers - 16-bit: 2; USART: 1 with I, 2C; DatasheetVersion: SLAS368G; PackageReference: RTD64; PackageDescription: 64-Pin Plastic Flat Pack, Body 9 x 9 mm, Pitch 0.5 mm; Supplier 1: Digi-Key; Supplier Part Number 1: MSP430F155IRTDR-ND; Supplier 2: Newark; Supplier Part Number 2: 18M2527; Supplier 3: Mouser; Supplier Part Number 3: 595-MSP430F155IRTDR; Comparators: Yes; Eco-Plan: Green (RoHS & no Sb/Br); Frequency(MHz): 8; SVS: Yes; Temp Sensor: Yes; Watchdog: Yes; Mounting Technology: Surface Mount; ComponentLink1Description: Manufacturer URL; ComponentLink1URL: http://www.ti.com/; ComponentLink2Description: Datasheet; ComponentLink2URL: http://www.ti.com/general/docs/lit/getliterature.tsp?genericPartNumber=MSP430F155&fileType=pdf; ComponentLink3Description: Package Specification; ComponentLink3URL: http://www.ti.com/lit/ds/symlink/msp430f1471.pdf
footprint TI-RTD64-4700X4700TP_N (QFN, 64-Leads, Body 9x9mm, Pitch 0.5mm, Thermal Pad 4.7x4.7mm, IPC Medium Density)
pins: 1 DVCC (power) "Digital supply voltage, positive terminal. Supplies all digital parts", 2 P6.3/A3 (io), 3 P6.4/A4 (io), 4 P6.5/A5 (io), 5 P6.6/A6/DAC0 (io), 6 P6.7/A7/DAC1/SVSIN (io), 7 VREF+ (out) "Output of positive terminal of the reference voltage in the ADC12", 8 XIN "Input port for crystal oscillator XT1. Standard or watch crystals can be connected.", 9 XOUT "Output terminal of crystal oscillator XT1", 10 VEREF+ (in) "Input for an external reference voltage", 11 VREF-/VEREF-, 12 P1.0/TACLK (io), 13 P1.1/TA0 (io), 14 P1.2/TA1 (io), 15 P1.3/TA2 (io), 16 P1.4/SMCLK (io), 17 P1.5/TA0 (io), 18 P1.6/TA1 (io), 19 P1.7/TA2 (io), 20 P2.0/ACLK (io), 21 P2.1/TAINCLK (io), 22 P2.2/CAOUT/TA0 (io), 23 P2.3/CA0/TA1 (io), 24 P2.4/CA1/TA2 (io), 25 P2.5/ROSC (io), 26 P2.6/ADC12CLK/DMAE0 (io), 27 P2.7/TA0 (io), 28 P3.0/STE0 (io), 29 P3.1/SIMO0/SDA (io), 30 P3.2/SOMI0 (io), 31 P3.3/UCLK0/SCL (io), 32 P3.4/UTXD0 (io), 33 P3.5/URXD0 (io), 34 P3.6 (io) "General-purpose digital I/O pin", 35 P3.7 (io) "General-purpose digital I/O pin", 36 P4.0/TB0 (io), 37 P4.1/TB1 (io), 38 P4.2/TB2 (io), 39 P4.3 (io) "General-purpose digital I/O pin", 40 P4.4 (io) "General-purpose digital I/O pin", 41 P4.5 (io) "General-purpose digital I/O pin", 42 P4.6 (io) "General-purpose digital I/O pin", 43 P4.7/TBCLK (io), 44 P5.0 (io) "General-purpose digital I/O pin", 45 P5.1 (io) "General-purpose digital I/O pin", 46 P5.2 (io) "General-purpose digital I/O pin", 47 P5.3 (io) "General-purpose digital I/O pin", 48 P5.4/MCLK (io), 49 P5.5/SMCLK (io), 50 P5.6/ACLK (io), 51 P5.7/TBOUTH/SVSOUT (io), 52 XT2OUT "Output terminal of crystal oscillator XT2", 53 XT2IN "Input port for crystal oscillator XT2. Only standard crystals can be connected.", 54 TDO/TDI (io), 55 TDI/TCLK (in), 56 TMS (in) "Test mode select. TMS is used as an input port for device programming and test", 57 TCK (in) "Test clock. TCK is the clock input port for device programming test and bootstrap loader start", 58 ~{RST}/NMI (in), 59 P6.0/A0 (io), 60 P6.1/A1 (io), 61 P6.2/A2 (io), 62 AVSS (power) "Analog supply voltage, negative terminal. Supplies only the analog portion of ADC12 and DAC12.", 63 DVSS (power) "Digital supply voltage, negative terminal. Supplies all digital parts.", 64 AVCC (power) "Analog supply voltage, positive terminal. Supplies only the analog portion of ADC12 and DAC12.", 65 QFN PAD (power) "QFN package pad connection to DVSS recommended (RTD package only)"

## MSP430F156IPM
designator U?
8 MHz Mixed Signal Microcontroller with 24 KB Flash, 1024 B SRAM and 48 GPIOs, -40 to 85 degC, 64-pin QFP (PM), Green (RoHS & no Sb/Br); Manufacturer: Texas Instruments; PartNumber: MSP430F156IPM; ADC: 12-bit SAR; ADC Channels: 8; Brown Out Reset: Yes; DAC: 1; Flash(KB): 24; GPIO: 48; SRAM(B): 1024; SubFamily: 1 Series; Timers - 16-bit: 2; USART: 1 with I, 2C; DatasheetVersion: SLAS368G; PackageVersion: 4040152/C; PackageReference: PM64; PackageDescription: 64-Pin Plastic Quad Flat Pack, Body 10 x 10 mm, Pitch 0.5 mm; Supplier 1: Digi-Key; Supplier Part Number 1: 296-21438-2-ND; Supplier 2: Digi-Key; Supplier Part Number 2: 296-21438-1-ND; Supplier 3: Digi-Key; Supplier Part Number 3: 296-21438-6-ND; Supplier 4: Farnell; Supplier Part Number 4: 1610169; Supplier 5: Newark; Supplier Part Number 5: 18M2528; Supplier 6: Mouser; Supplier Part Number 6: 595-MSP430F155IRTDT; Comparators: Yes; Eco-Plan: Green (RoHS & no Sb/Br); Frequency(MHz): 8; SVS: Yes; Temp Sensor: Yes; Watchdog: Yes; Mounting Technology: Surface Mount; Code_JEDEC: MS-026; ComponentLink1Description: Manufacturer URL; ComponentLink1URL: http://www.ti.com/; ComponentLink2Description: Datasheet; ComponentLink2URL: http://www.ti.com/general/docs/lit/getliterature.tsp?genericPartNumber=MSP430F156&fileType=pdf; ComponentLink3Description: Package Specification; ComponentLink3URL: http://www.ti.com/lit/ml/mtqf008a/mtqf008a.pdf
footprint TI-PM64_N (QFP, 64-Leads, Body 10x10mm, Pitch 0.5mm, IPC Medium Density)
pins: 1 DVCC (power) "Digital supply voltage, positive terminal. Supplies all digital parts.", 2 P6.3/A3 (io), 3 P6.4/A4 (io), 4 P6.5/A5 (io), 5 P6.6/A6/DAC0 (io), 6 P6.7/A7/DAC1/SVSIN (io), 7 VREF+ (out) "Output of positive terminal of the reference voltage in the ADC12", 8 XIN "Input port for crystal oscillator XT1. Standard or watch crystals can be connected.", 9 XOUT "Output terminal of crystal oscillator XT1", 10 VEREF+ (in) "Input for an external reference voltage to the ADC", 11 VREF-/VEREF-, 12 P1.0/TACLK (io), 13 P1.1/TA0 (io), 14 P1.2/TA1 (io), 15 P1.3/TA2 (io), 16 P1.4/SMCLK (io), 17 P1.5/TA0 (io), 18 P1.6/TA1 (io), 19 P1.7/TA2 (io), 20 P2.0/ACLK (io), 21 P2.1/TAINCLK (io), 22 P2.2/CAOUT/TA0 (io), 23 P2.3/CA0/TA1 (io), 24 P2.4/CA1/TA2 (io), 25 P2.5/ROSC (io), 26 P2.6/ADC12CLK/DMAE0 (io), 27 P2.7/TA0 (io), 28 P3.0/STE0 (io), 29 P3.1/SIMO0/SDA (io), 30 P3.2/SOMI0 (io), 31 P3.3/UCLK0/SCL (io), 32 P3.4/UTXD0 (io), 33 P3.5/URXD0 (io), 34 P3.6 (io) "General-purpose digital I/O pin", 35 P3.7 (io) "General-purpose digital I/O pin", 36 P4.0/TB0 (io), 37 P4.1/TB1 (io), 38 P4.2/TB2 (io), 39 P4.3 (io) "General-purpose digital I/O pin", 40 P4.4 (io) "General-purpose digital I/O pin", 41 P4.5 (io) "General-purpose digital I/O pin", 42 P4.6 (io) "General-purpose digital I/O pin", 43 P4.7/TBCLK (io), 44 P5.0 (io) "General-purpose digital I/O pin", 45 P5.1 (io) "General-purpose digital I/O pin", 46 P5.2 (io) "General-purpose digital I/O pin", 47 P5.3 (io) "General-purpose digital I/O pin", 48 P5.4/MCLK (io), 49 P5.5/SMCLK (io), 50 P5.6/ACLK (io), 51 P5.7/TBOUTH/SVSOUT (io), 52 XT2OUT "Output terminal of crystal oscillator XT2", 53 XT2IN "Input port for crystal oscillator XT2. Only standard crystals can be connected.", 54 TDO/TDI (io), 55 TDI/TCLK (in), 56 TMS (in) "Test mode select. TMS is used as an input port for device programming and test.", 57 TCK (in) "Test clock. TCK is the clock input port for device programming test and bootstrap loader start", 58 ~{RST}/NMI (in), 59 P6.0/A0 (io), 60 P6.1/A1 (io), 61 P6.2/A2 (io), 62 AVSS (power) "Analog supply voltage, negative terminal. Supplies only the analog portion of ADC12 and DAC12.", 63 DVSS (power) "Digital supply voltage, negative terminal. Supplies all digital parts.", 64 AVCC (power) "Analog supply voltage, positive terminal. Supplies only the analog portion of ADC12 and DAC12"

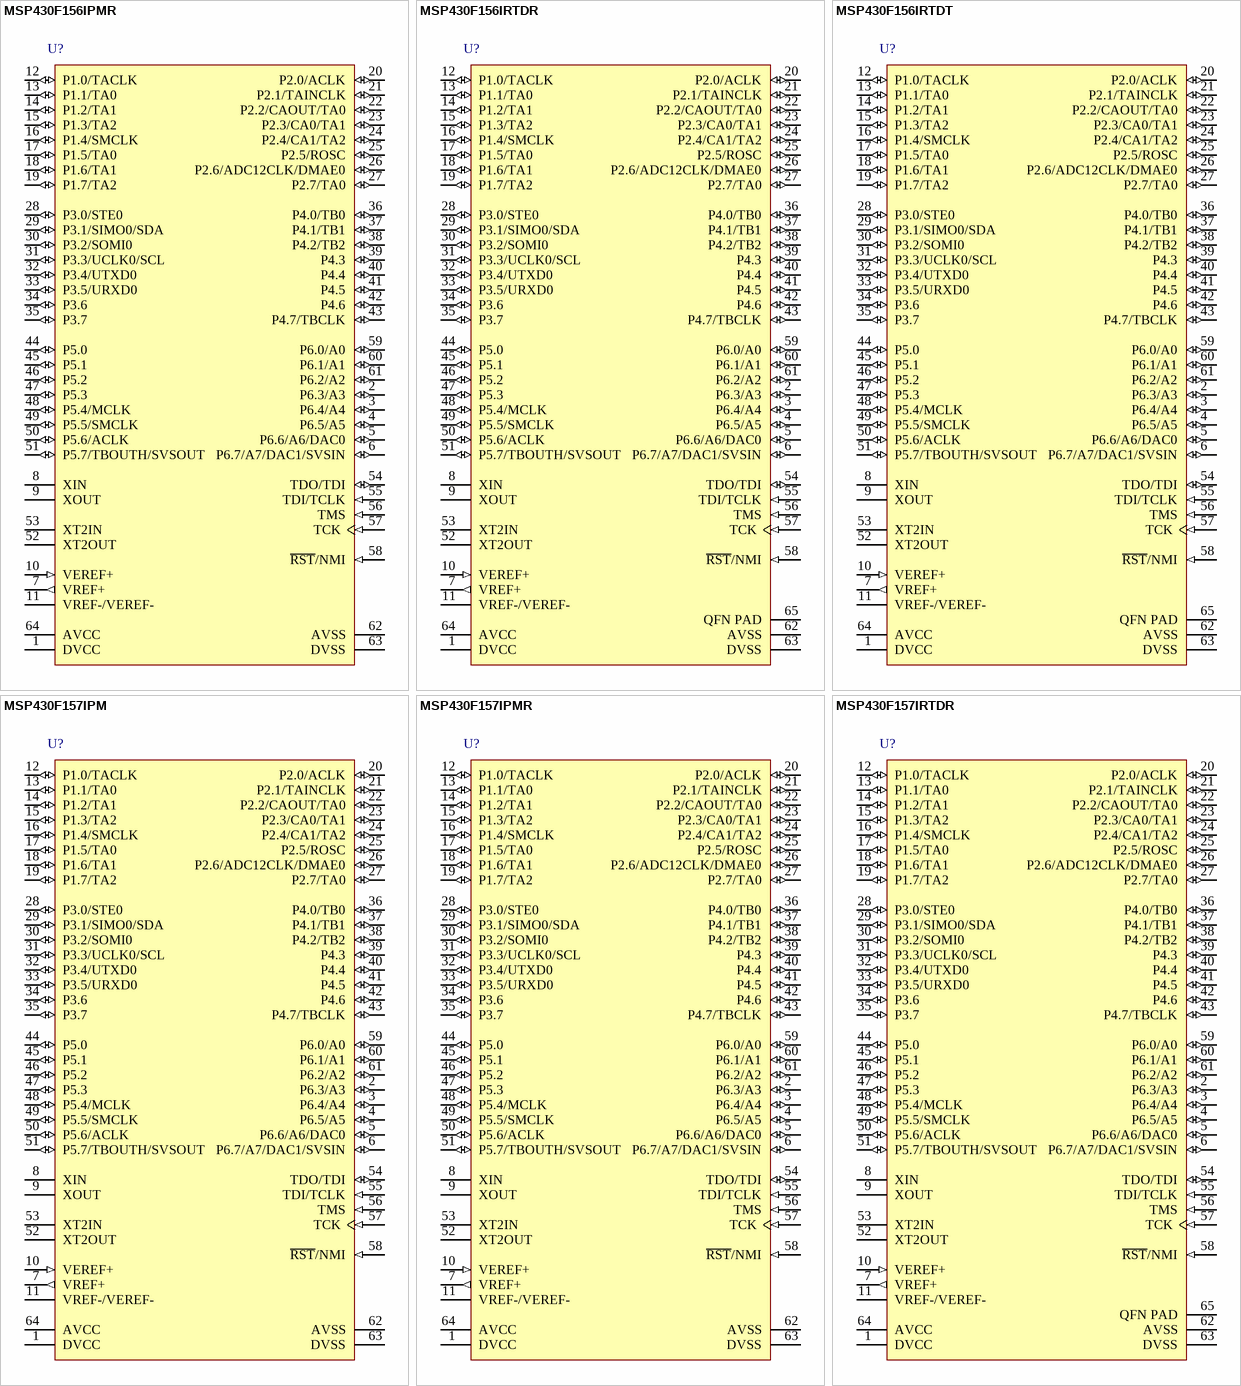
[diagram p25: symbols MSP430F156IPMR to MSP430F157IRTDR]

## MSP430F156IPMR
designator U?
8 MHz Mixed Signal Microcontroller with 24 KB Flash, 1024 B SRAM and 48 GPIOs, -40 to 85 degC, 64-pin QFP (PM), Green (RoHS & no Sb/Br); Manufacturer: Texas Instruments; PartNumber: MSP430F156IPMR; ADC: 12-bit SAR; ADC Channels: 8; Brown Out Reset: Yes; DAC: 1; Flash(KB): 24; GPIO: 48; SRAM(B): 1024; SubFamily: 1 Series; Timers - 16-bit: 2; USART: 1 with I, 2C; DatasheetVersion: SLAS368G; PackageVersion: 4040152/C; PackageReference: PM64; PackageDescription: 64-Pin Plastic Quad Flat Pack, Body 10 x 10 mm, Pitch 0.5 mm; Supplier 1: Digi-Key; Supplier Part Number 1: 296-16838-ND; Supplier 2: Farnell; Supplier Part Number 2: 1537171; Supplier 3: Newark; Supplier Part Number 3: 95M6753; Supplier 4: Newark; Supplier Part Number 4: 01J0582; Supplier 5: Mouser; Supplier Part Number 5: 595-430F156IPM; Comparators: Yes; Eco-Plan: Green (RoHS & no Sb/Br); Frequency(MHz): 8; SVS: Yes; Temp Sensor: Yes; Watchdog: Yes; Mounting Technology: Surface Mount; Code_JEDEC: MS-026; ComponentLink1Description: Manufacturer URL; ComponentLink1URL: http://www.ti.com/; ComponentLink2Description: Datasheet; ComponentLink2URL: http://www.ti.com/general/docs/lit/getliterature.tsp?genericPartNumber=MSP430F156&fileType=pdf; ComponentLink3Description: Package Specification; ComponentLink3URL: http://www.ti.com/lit/ml/mtqf008a/mtqf008a.pdf
footprint TI-PM64_N (QFP, 64-Leads, Body 10x10mm, Pitch 0.5mm, IPC Medium Density)
pins: 1 DVCC (power) "Digital supply voltage, positive terminal. Supplies all digital parts.", 2 P6.3/A3 (io), 3 P6.4/A4 (io), 4 P6.5/A5 (io), 5 P6.6/A6/DAC0 (io), 6 P6.7/A7/DAC1/SVSIN (io), 7 VREF+ (out) "Output of positive terminal of the reference voltage in the ADC12", 8 XIN "Input port for crystal oscillator XT1. Standard or watch crystals can be connected.", 9 XOUT "Output terminal of crystal oscillator XT1", 10 VEREF+ (in) "Input for an external reference voltage to the ADC", 11 VREF-/VEREF-, 12 P1.0/TACLK (io), 13 P1.1/TA0 (io), 14 P1.2/TA1 (io), 15 P1.3/TA2 (io), 16 P1.4/SMCLK (io), 17 P1.5/TA0 (io), 18 P1.6/TA1 (io), 19 P1.7/TA2 (io), 20 P2.0/ACLK (io), 21 P2.1/TAINCLK (io), 22 P2.2/CAOUT/TA0 (io), 23 P2.3/CA0/TA1 (io), 24 P2.4/CA1/TA2 (io), 25 P2.5/ROSC (io), 26 P2.6/ADC12CLK/DMAE0 (io), 27 P2.7/TA0 (io), 28 P3.0/STE0 (io), 29 P3.1/SIMO0/SDA (io), 30 P3.2/SOMI0 (io), 31 P3.3/UCLK0/SCL (io), 32 P3.4/UTXD0 (io), 33 P3.5/URXD0 (io), 34 P3.6 (io) "General-purpose digital I/O pin", 35 P3.7 (io) "General-purpose digital I/O pin", 36 P4.0/TB0 (io), 37 P4.1/TB1 (io), 38 P4.2/TB2 (io), 39 P4.3 (io) "General-purpose digital I/O pin", 40 P4.4 (io) "General-purpose digital I/O pin", 41 P4.5 (io) "General-purpose digital I/O pin", 42 P4.6 (io) "General-purpose digital I/O pin", 43 P4.7/TBCLK (io), 44 P5.0 (io) "General-purpose digital I/O pin", 45 P5.1 (io) "General-purpose digital I/O pin", 46 P5.2 (io) "General-purpose digital I/O pin", 47 P5.3 (io) "General-purpose digital I/O pin", 48 P5.4/MCLK (io), 49 P5.5/SMCLK (io), 50 P5.6/ACLK (io), 51 P5.7/TBOUTH/SVSOUT (io), 52 XT2OUT "Output terminal of crystal oscillator XT2", 53 XT2IN "Input port for crystal oscillator XT2. Only standard crystals can be connected.", 54 TDO/TDI (io), 55 TDI/TCLK (in), 56 TMS (in) "Test mode select. TMS is used as an input port for device programming and test.", 57 TCK (in) "Test clock. TCK is the clock input port for device programming test and bootstrap loader start", 58 ~{RST}/NMI (in), 59 P6.0/A0 (io), 60 P6.1/A1 (io), 61 P6.2/A2 (io), 62 AVSS (power) "Analog supply voltage, negative terminal. Supplies only the analog portion of ADC12 and DAC12.", 63 DVSS (power) "Digital supply voltage, negative terminal. Supplies all digital parts.", 64 AVCC (power) "Analog supply voltage, positive terminal. Supplies only the analog portion of ADC12 and DAC12"

## MSP430F156IRTDR
designator U?
8 MHz Mixed Signal Microcontroller with 24 KB Flash, 1024 B SRAM and 48 GPIOs, -40 to 85 degC, 64-pin QFN (RTD), Green (RoHS & no Sb/Br); Manufacturer: Texas Instruments; PartNumber: MSP430F156IRTDR; ADC: 12-bit SAR; ADC Channels: 8; Brown Out Reset: Yes; DAC: 1; Flash(KB): 24; GPIO: 48; SRAM(B): 1024; SubFamily: 1 Series; Timers - 16-bit: 2; USART: 1 with I, 2C; DatasheetVersion: SLAS368G; PackageReference: RTD64; PackageDescription: 64-Pin Plastic Flat Pack, Body 9 x 9 mm, Pitch 0.5 mm; Supplier 1: Digi-Key; Supplier Part Number 1: MSP430F156IPMR-ND; Supplier 2: Newark; Supplier Part Number 2: 01J0583; Supplier 3: Mouser; Supplier Part Number 3: 595-430F156IPMR; Comparators: Yes; Eco-Plan: Green (RoHS & no Sb/Br); Frequency(MHz): 8; SVS: Yes; Temp Sensor: Yes; Watchdog: Yes; Mounting Technology: Surface Mount; ComponentLink1Description: Manufacturer URL; ComponentLink1URL: http://www.ti.com/; ComponentLink2Description: Datasheet; ComponentLink2URL: http://www.ti.com/general/docs/lit/getliterature.tsp?genericPartNumber=MSP430F156&fileType=pdf; ComponentLink3Description: Package Specification; ComponentLink3URL: http://www.ti.com/lit/ds/symlink/msp430f1471.pdf
footprint TI-RTD64-4700X4700TP_N (QFN, 64-Leads, Body 9x9mm, Pitch 0.5mm, Thermal Pad 4.7x4.7mm, IPC Medium Density)
pins: 1 DVCC (power) "Digital supply voltage, positive terminal. Supplies all digital parts", 2 P6.3/A3 (io), 3 P6.4/A4 (io), 4 P6.5/A5 (io), 5 P6.6/A6/DAC0 (io), 6 P6.7/A7/DAC1/SVSIN (io), 7 VREF+ (out) "Output of positive terminal of the reference voltage in the ADC12", 8 XIN "Input port for crystal oscillator XT1. Standard or watch crystals can be connected.", 9 XOUT "Output terminal of crystal oscillator XT1", 10 VEREF+ (in) "Input for an external reference voltage", 11 VREF-/VEREF-, 12 P1.0/TACLK (io), 13 P1.1/TA0 (io), 14 P1.2/TA1 (io), 15 P1.3/TA2 (io), 16 P1.4/SMCLK (io), 17 P1.5/TA0 (io), 18 P1.6/TA1 (io), 19 P1.7/TA2 (io), 20 P2.0/ACLK (io), 21 P2.1/TAINCLK (io), 22 P2.2/CAOUT/TA0 (io), 23 P2.3/CA0/TA1 (io), 24 P2.4/CA1/TA2 (io), 25 P2.5/ROSC (io), 26 P2.6/ADC12CLK/DMAE0 (io), 27 P2.7/TA0 (io), 28 P3.0/STE0 (io), 29 P3.1/SIMO0/SDA (io), 30 P3.2/SOMI0 (io), 31 P3.3/UCLK0/SCL (io), 32 P3.4/UTXD0 (io), 33 P3.5/URXD0 (io), 34 P3.6 (io) "General-purpose digital I/O pin", 35 P3.7 (io) "General-purpose digital I/O pin", 36 P4.0/TB0 (io), 37 P4.1/TB1 (io), 38 P4.2/TB2 (io), 39 P4.3 (io) "General-purpose digital I/O pin", 40 P4.4 (io) "General-purpose digital I/O pin", 41 P4.5 (io) "General-purpose digital I/O pin", 42 P4.6 (io) "General-purpose digital I/O pin", 43 P4.7/TBCLK (io), 44 P5.0 (io) "General-purpose digital I/O pin", 45 P5.1 (io) "General-purpose digital I/O pin", 46 P5.2 (io) "General-purpose digital I/O pin", 47 P5.3 (io) "General-purpose digital I/O pin", 48 P5.4/MCLK (io), 49 P5.5/SMCLK (io), 50 P5.6/ACLK (io), 51 P5.7/TBOUTH/SVSOUT (io), 52 XT2OUT "Output terminal of crystal oscillator XT2", 53 XT2IN "Input port for crystal oscillator XT2. Only standard crystals can be connected.", 54 TDO/TDI (io), 55 TDI/TCLK (in), 56 TMS (in) "Test mode select. TMS is used as an input port for device programming and test", 57 TCK (in) "Test clock. TCK is the clock input port for device programming test and bootstrap loader start", 58 ~{RST}/NMI (in), 59 P6.0/A0 (io), 60 P6.1/A1 (io), 61 P6.2/A2 (io), 62 AVSS (power) "Analog supply voltage, negative terminal. Supplies only the analog portion of ADC12 and DAC12.", 63 DVSS (power) "Digital supply voltage, negative terminal. Supplies all digital parts.", 64 AVCC (power) "Analog supply voltage, positive terminal. Supplies only the analog portion of ADC12 and DAC12.", 65 QFN PAD (power) "QFN package pad connection to DVSS recommended (RTD package only)"